# Altium footprint library LPON_IC.PcbLib: 50 footprints (part 1 of 4)
Each footprint in its own frame and in the unit in brackets; x right, y up, seen from the top. Pads: shape width x height; smd on the part's side, far side on the other; paste and mask are expansions set on the pad; w line width, h text height; cw(c..) or ccw(c..) is an arc to the next point about the centre after c.
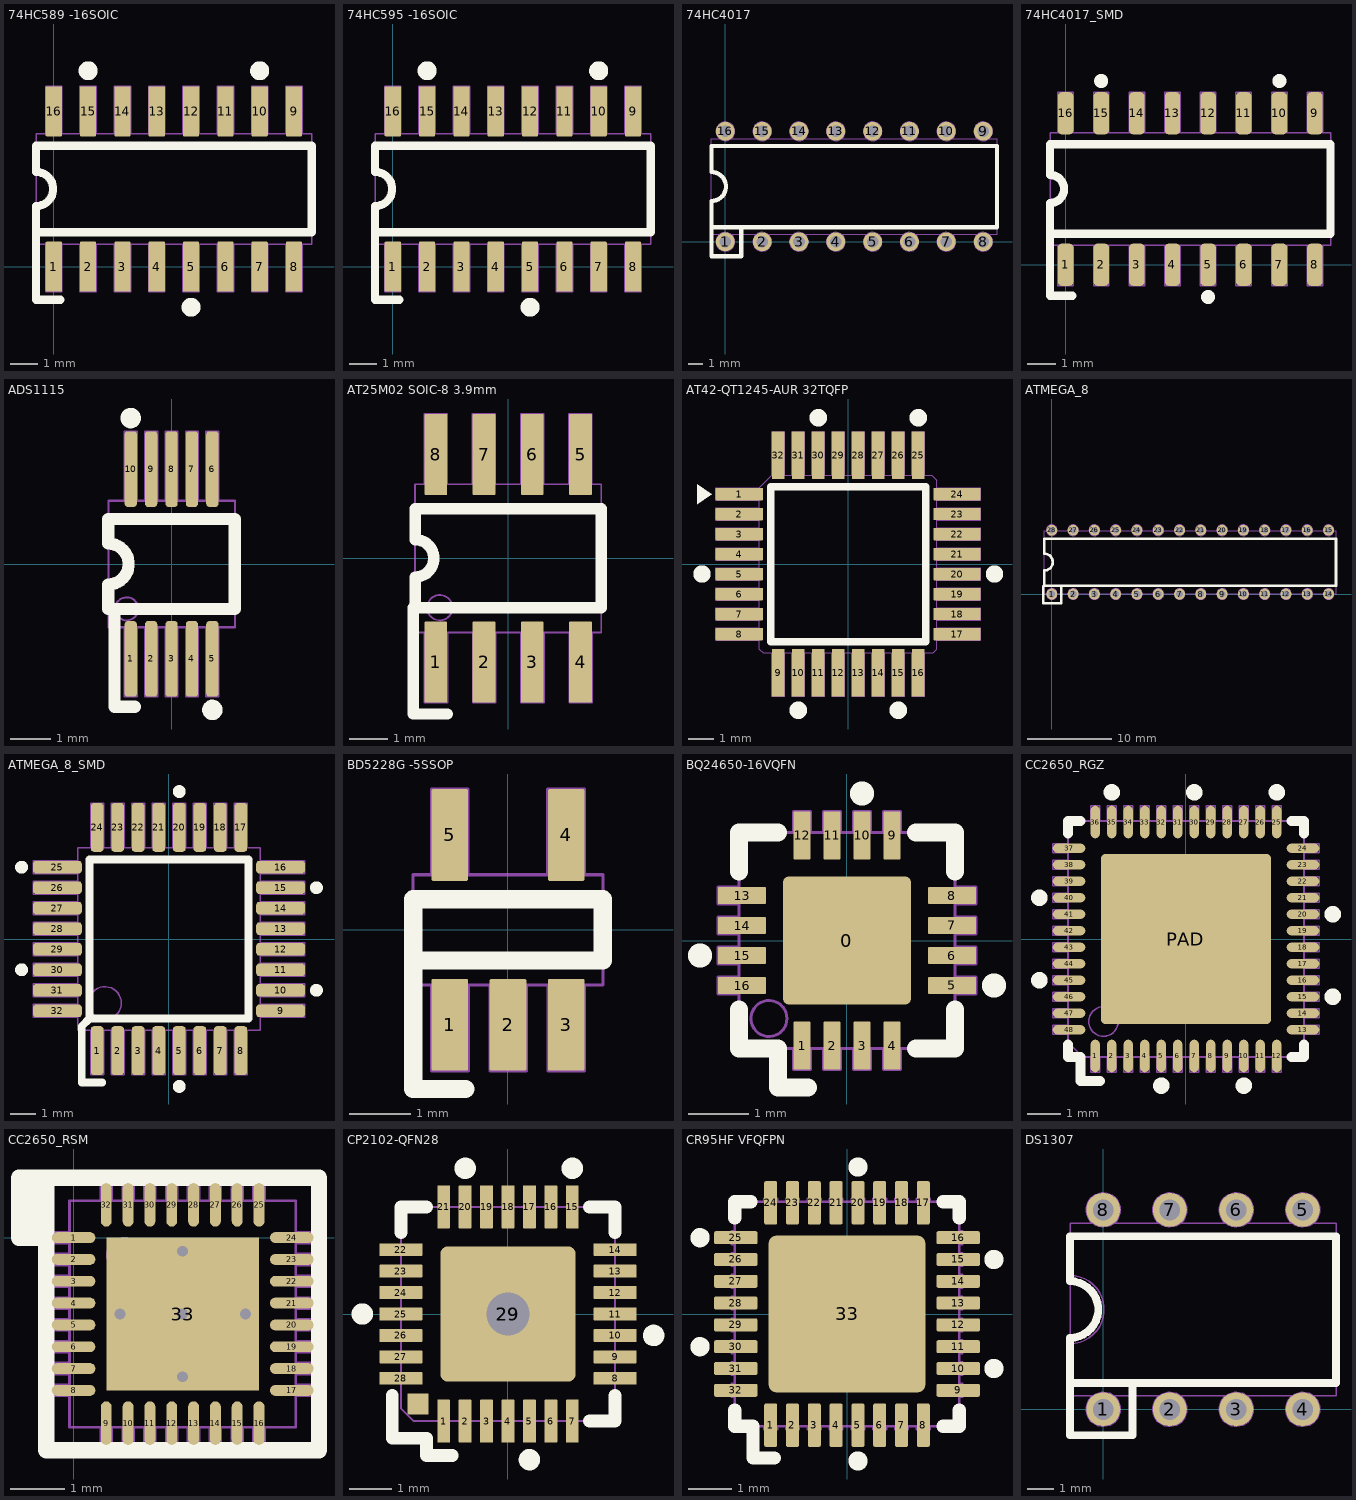
[diagram p0: the footprints below, top view; thin cyan lines are the x and y axes]

## 74HC589 -16SOIC [mm] "IC SHIFT REGISTR 8BIT 3ST 16SOIC"
height 1.75
pads (16):
  rrect10% 0.6x1.85 smd: 1(0,0) 2(1.27,0) 3(2.54,0) 4(3.81,0) 5(5.08,0) 6(6.35,0) 7(7.62,0) 8(8.89,0) 9(8.89,5.75) 10(7.62,5.75) 11(6.35,5.75) 12(5.08,5.75) 13(3.81,5.75) 14(2.54,5.75) 15(1.27,5.75) 16(0,5.75)
Top Overlay:
  circle w0.5: c1.27,7.25 r0.1
  circle w0.5: c7.62,7.25 r0.1
  circle w0.5: c5.08,-1.5 r0.1
  lines w0.3: 0.245,-1.225 -0.655,-1.225 -0.655,1.275 ; -0.655,1.275 -0.655,2.243 ccw(c-0.655,2.875) -0.655,3.507 -0.655,4.475 9.545,4.475 9.545,1.275 -0.655,1.275
Top hinh chieu bang:
  lines w0.05: -0.655,2.243 ccw(c-0.655,2.875) -0.655,3.507 ; 0.969,0.823 0.969,-0.926 1.572,-0.926 1.572,0.823 ; 0.969,4.927 0.969,6.676 1.572,6.676 1.572,4.927 ; 2.239,0.823 2.239,-0.926 2.842,-0.926 2.842,0.823 ; 2.239,4.927 2.239,6.676 2.842,6.676 2.842,4.927 ; 3.509,0.823 3.509,-0.926 4.112,-0.926 4.112,0.823 ; 3.509,4.927 3.509,6.676 4.112,6.676 4.112,4.927 ; 4.779,0.823 4.779,-0.926 5.382,-0.926 5.382,0.823 ; 4.779,4.927 4.779,6.676 5.382,6.676 5.382,4.927 ; 6.049,0.823 6.049,-0.926 6.652,-0.926 6.652,0.823 ; 6.049,4.927 6.049,6.676 6.652,6.676 6.652,4.927 ; 7.319,0.823 7.319,-0.926 7.922,-0.926 7.922,0.823 ; 7.319,4.927 7.319,6.676 7.922,6.676 7.922,4.927 ; 8.589,0.823 8.589,-0.926 9.192,-0.926 9.192,0.823 ; 8.589,4.927 8.589,6.676 9.192,6.676 9.192,4.927 ; -0.301,-0.926 -0.301,0.823 -0.301,-0.926 ; -0.301,-0.926 0.302,-0.926 ; -0.301,-0.926 0.302,-0.926 ; -0.301,6.676 -0.301,4.927 -0.301,6.676 ; -0.301,6.676 0.302,6.676 ; -0.301,6.676 0.302,6.676 ; 0.302,-0.926 0.302,0.823 ; 0.302,-0.926 0.302,0.823 ; 0.302,0.823 0.302,0.823 ; 0.302,4.927 0.302,6.676 ; 0.302,4.927 0.302,4.927 ; 0.302,4.927 0.302,6.676 ; -0.655,0.825 -0.655,4.925 9.545,4.925 9.545,0.825 -0.655,0.825
  text "16" at -0.355,3.975 h0.8
  text "9" at 8.645,3.975 h0.8
  text "8" at 8.645,1.075 h0.8
  text "1" at -0.155,1.075 h0.8
3D body "User Library-so16.step": height 1.6, standoff -0.1, extent -0.65,-0.2 9.55,5.8
3D body "User Library-so16.step": height 1.6, standoff -0.1, extent -0.65,-0.2 9.55,5.8

## 74HC595 -16SOIC [mm] "IC SHIFT REGISTR 8BIT 3ST 16SOIC"
height 1.75
pads (16):
  rrect10% 0.6x1.85 smd: 1(0,0) 2(1.27,0) 3(2.54,0) 4(3.81,0) 5(5.08,0) 6(6.35,0) 7(7.62,0) 8(8.89,0) 9(8.89,5.75) 10(7.62,5.75) 11(6.35,5.75) 12(5.08,5.75) 13(3.81,5.75) 14(2.54,5.75) 15(1.27,5.75) 16(0,5.75)
Top Overlay:
  circle w0.5: c5.08,-1.5 r0.1
  circle w0.5: c7.62,7.25 r0.1
  circle w0.5: c1.27,7.25 r0.1
  lines w0.3: 0.245,-1.225 -0.655,-1.225 -0.655,1.275 ; -0.655,1.275 9.545,1.275 9.545,4.475 -0.655,4.475 -0.655,3.507 cw(c-0.655,2.875) -0.655,2.243 -0.655,1.275
Top hinh chieu bang:
  lines w0.05: -0.655,2.243 ccw(c-0.655,2.875) -0.655,3.507 ; 0.969,0.823 0.969,-0.926 1.572,-0.926 1.572,0.823 ; 0.969,4.927 0.969,6.676 1.572,6.676 1.572,4.927 ; 2.239,0.823 2.239,-0.926 2.842,-0.926 2.842,0.823 ; 2.239,4.927 2.239,6.676 2.842,6.676 2.842,4.927 ; 3.509,0.823 3.509,-0.926 4.112,-0.926 4.112,0.823 ; 3.509,4.927 3.509,6.676 4.112,6.676 4.112,4.927 ; 4.779,0.823 4.779,-0.926 5.382,-0.926 5.382,0.823 ; 4.779,4.927 4.779,6.676 5.382,6.676 5.382,4.927 ; 6.049,0.823 6.049,-0.926 6.652,-0.926 6.652,0.823 ; 6.049,4.927 6.049,6.676 6.652,6.676 6.652,4.927 ; 7.319,0.823 7.319,-0.926 7.922,-0.926 7.922,0.823 ; 7.319,4.927 7.319,6.676 7.922,6.676 7.922,4.927 ; 8.589,0.823 8.589,-0.926 9.192,-0.926 9.192,0.823 ; 8.589,4.927 8.589,6.676 9.192,6.676 9.192,4.927 ; -0.301,-0.926 -0.301,0.823 -0.301,-0.926 ; -0.301,-0.926 0.302,-0.926 ; -0.301,-0.926 0.302,-0.926 ; -0.301,6.676 -0.301,4.927 -0.301,6.676 ; -0.301,6.676 0.302,6.676 ; -0.301,6.676 0.302,6.676 ; 0.302,-0.926 0.302,0.823 ; 0.302,-0.926 0.302,0.823 ; 0.302,0.823 0.302,0.823 ; 0.302,4.927 0.302,6.676 ; 0.302,4.927 0.302,4.927 ; 0.302,4.927 0.302,6.676 ; -0.655,0.825 9.545,0.825 9.545,4.925 -0.655,4.925 -0.655,0.825
  text "1" at -0.155,1.075 h0.8
  text "8" at 8.645,1.075 h0.8
  text "9" at 8.645,3.975 h0.8
  text "16" at -0.355,3.975 h0.8
3D body "User Library-so16.step": height 1.6, standoff -0.1, extent -0.65,-0.2 9.55,5.8

## 74HC4017 [mm] "DIP 16, 16 PIN, W 7.62, Pin to pin 2.54MM"
height 5.08
pads (16):
  round 1.3 hole 0.8: 1(0,0) 2(2.54,0) 3(5.08,0) 4(7.62,0) 5(10.16,0) 6(12.7,0) 7(15.24,0) 8(17.78,0) 9(17.78,7.62) 10(15.24,7.62) 11(12.7,7.62) 12(10.16,7.62) 13(7.62,7.62) 14(5.08,7.62) 15(2.54,7.62) 16(0,7.62)
Top Overlay:
  lines w0.3: 1.09,1.01 1.09,-0.99 -0.955,-0.99 -0.955,1.01 ; -0.955,1.01 18.735,1.01 18.735,6.61 -0.955,6.61 -0.955,4.81 cw(c-0.955,3.81) -0.955,2.81 -0.955,1.01
ASSY-C:
  circle w0.05: c0,7.62 r0.65
  circle w0.05: c2.54,7.62 r0.65
  circle w0.05: c5.08,7.62 r0.65
  circle w0.05: c7.62,7.62 r0.65
  circle w0.05: c7.62,0 r0.65
  circle w0.05: c5.08,0 r0.65
  circle w0.05: c2.54,0 r0.65
  circle w0.05: c0,0 r0.65
  circle w0.05: c7.62,0 r0.65
  circle w0.05: c7.62,7.62 r0.65
  circle w0.05: c10.16,0 r0.65
  circle w0.05: c10.16,7.62 r0.65
  circle w0.05: c12.7,0 r0.65
  circle w0.05: c12.7,7.62 r0.65
  circle w0.05: c15.24,0 r0.65
  circle w0.05: c15.24,7.62 r0.65
  circle w0.05: c17.78,0 r0.65
  circle w0.05: c17.78,7.62 r0.65
  lines w0.05: -0.955,2.81 ccw(c-0.955,3.81) -0.955,4.81 ; -0.955,0.51 18.735,0.51 18.735,7.11 -0.955,7.11 -0.955,0.51
  text "1" at -0.25,0.91 h1
  text "8" at 17.3,0.87 h1
  text "9" at 17.46,5.69 h1
  text "16" at -0.35,5.81 h1
3D body "User Library-DIP16-300-metric.step": height 4.5, standoff -3.5, extent -1.41,-0.07 19.19,7.69

## 74HC4017_SMD [mm] "CHIP DAN 16 CHAN LOAI D"
height 1.75
pads (16):
  rrect50% 0.55x1.5 smd mask+0.1: 1(0,0) 2(1.27,0) 3(2.54,0) 4(3.81,0) 5(5.08,0) 6(6.35,0) 7(7.62,0) 8(8.89,0) 9(8.89,5.4) 10(7.62,5.4) 11(6.35,5.4) 12(5.08,5.4) 13(3.81,5.4) 14(2.54,5.4) 15(1.27,5.4) 16(0,5.4)
Top Overlay:
  circle w0.3: c1.27,6.55 r0.1
  circle w0.3: c7.62,6.55 r0.1
  circle w0.3: c5.08,-1.15 r0.1
  lines w0.3: 0.245,-1.1 -0.555,-1.1 -0.555,1.1 ; -0.555,1.1 -0.555,2.2 ccw(c-0.555,2.7) -0.555,3.2 -0.555,4.3 9.445,4.3 9.445,1.1 -0.555,1.1
ASSY-C:
  lines w0.05: -0.555,2.2 ccw(c-0.555,2.7) -0.555,3.2 ; -0.555,0.7 -0.555,4.7 9.445,4.7 9.445,0.7 -0.555,0.7 ; -0.275,-0.75 0.275,-0.75 0.275,0.7 -0.275,0.7 -0.275,-0.75 ; -0.275,4.7 -0.275,6.15 0.275,6.15 0.275,4.7 -0.275,4.7 ; 0.995,-0.75 0.995,0.7 1.545,0.7 1.545,-0.75 0.995,-0.75 ; 0.995,4.7 0.995,6.15 1.545,6.15 1.545,4.7 0.995,4.7 ; 2.265,-0.75 2.265,0.7 2.815,0.7 2.815,-0.75 2.265,-0.75 ; 2.265,4.7 2.265,6.15 2.815,6.15 2.815,4.7 2.265,4.7 ; 3.535,-0.75 3.535,0.7 4.085,0.7 4.085,-0.75 3.535,-0.75 ; 3.535,4.7 3.535,6.15 4.085,6.15 4.085,4.7 3.535,4.7 ; 4.805,-0.75 4.805,0.7 5.355,0.7 5.355,-0.75 4.805,-0.75 ; 4.805,4.7 4.805,6.15 5.355,6.15 5.355,4.7 4.805,4.7 ; 6.075,-0.75 6.075,0.7 6.625,0.7 6.625,-0.75 6.075,-0.75 ; 6.075,4.7 6.075,6.15 6.625,6.15 6.625,4.7 6.075,4.7 ; 7.345,-0.75 7.345,0.7 7.895,0.7 7.895,-0.75 7.345,-0.75 ; 7.345,4.7 7.345,6.15 7.895,6.15 7.895,4.7 7.345,4.7 ; 8.615,-0.75 8.615,0.7 9.165,0.7 9.165,-0.75 8.615,-0.75 ; 8.615,4.7 8.615,6.15 9.165,6.15 9.165,4.7 8.615,4.7
  text "16" at -0.455,3.4 h1
  text "9" at 8.545,3.5 h1
  text "8" at 8.545,0.9 h1
  text "1" at -0.155,0.9 h1
3D body "User Library-SOIC-16-2.step": height 1.75, standoff 0, extent -0.555,-0.3 9.445,5.7

## ADS1115 [mm] "MSOP-10, 16-Bit  Analog-to-Digital"
height 1
pads (10):
  rrect50% 0.3x1.85 smd mask+0.05: 1(-1,-2.325) 2(-0.5,-2.325) 3(0,-2.325) 4(0.5,-2.325) 5(1,-2.325) 6(1,2.325) 7(0.5,2.325) 8(0,2.325) 9(-0.5,2.325) 10(-1,2.325)
Top Overlay:
  circle w0.3: c1,-3.575 r0.1
  circle w0.3: c-1,3.575 r0.1
  lines w0.3: -1.4,-1.1 -1.4,-3.5 -0.9,-3.5 ; -1.55,-1.1 -1.55,-0.5 ccw(c-1.55,0) -1.55,0.5 -1.55,1.1 1.55,1.1 1.55,-1.1 -1.55,-1.1
ASSY-C:
  circle w0.05: c-1.1,-1.1 r0.283
  lines w0.05: -1.55,-0.4 ccw(c-1.55,0) -1.55,0.4 ; -1.55,-1.55 -1.55,1.55 1.55,1.55 1.55,-1.55 -1.55,-1.55 ; -1.15,-3.25 -0.85,-3.25 -0.85,-1.55 -1.15,-1.55 -1.15,-3.25 ; -1.15,1.55 -1.15,3.25 -0.85,3.25 -0.85,1.55 -1.15,1.55 ; -0.65,-3.25 -0.65,-1.55 -0.35,-1.55 -0.35,-3.25 -0.65,-3.25 ; -0.65,1.55 -0.65,3.25 -0.35,3.25 -0.35,1.55 -0.65,1.55 ; -0.15,-3.25 -0.15,-1.55 0.15,-1.55 0.15,-3.25 -0.15,-3.25 ; -0.15,1.55 -0.15,3.25 0.15,3.25 0.15,1.55 -0.15,1.55 ; 0.35,-3.25 0.35,-1.55 0.65,-1.55 0.65,-3.25 0.35,-3.25 ; 0.35,1.55 0.35,3.25 0.65,3.25 0.65,1.55 0.35,1.55 ; 0.85,-3.25 0.85,-1.55 1.15,-1.55 1.15,-3.25 0.85,-3.25 ; 0.85,1.55 0.85,3.25 1.15,3.25 1.15,1.55 0.85,1.55
  text "10" at -1.4,0.6 h0.8
  text "6" at 0.8,0.6 h0.8
  text "5" at 0.8,-1.4 h0.8
3D body "User Library-msop-10.step": height 1.15, standoff 0, extent -1.5,-2.45 1.5,2.45

## AT25M02 SOIC-8 3.9mm [mm] "8-Pin SOIC 3.9mm Width"
height 2.16
pads (8):
  rrect10% 0.6x2.135 smd mask+0.1: 1(-1.905,-2.732) 2(-0.635,-2.732) 3(0.635,-2.732) 4(1.905,-2.732) 5(1.905,2.733) 6(0.635,2.733) 7(-0.635,2.733) 8(-1.905,2.733)
Top Overlay:
  lines w0.3: -1.6,-4.1 -2.5,-4.1 -2.5,-1.3 -2.45,-1.3 ; -2.45,-1.3 2.45,-1.3 2.45,1.3 -2.45,1.3 -2.45,0.493 cw(c-2.45,0) -2.45,-0.492 -2.45,-1.3
Top hinh chieu bang:
  circle w0.05: c-1.8,-1.3 r0.334
  lines w0.05: -2.45,-0.532 ccw(c-2.45,0) -2.45,0.532 ; -2.21,1.95 -2.21,3.8 -1.61,3.8 -1.61,1.95 ; -2.2,-1.95 -2.2,-3.8 -1.6,-3.8 -1.6,-1.95 ; -0.94,1.95 -0.94,3.8 -0.34,3.8 -0.34,1.95 ; -0.93,-1.95 -0.93,-3.8 -0.33,-3.8 -0.33,-1.95 ; 0.33,1.95 0.33,3.8 0.93,3.8 0.93,1.95 ; 0.34,-1.95 0.34,-3.8 0.94,-3.8 0.94,-1.95 ; 1.6,1.95 1.6,3.8 2.2,3.8 2.2,1.95 ; 1.61,-1.95 1.61,-3.8 2.21,-3.8 2.21,-1.95 ; -2.45,-1.95 2.45,-1.95 2.45,1.95 -2.45,1.95 -2.45,-1.95
  text "4" at 1.6,-1.7 h1
  text "5" at 1.62,0.712 h1
  text "8" at -2.24,0.712 h1
3D body "User Library-SOIC-8-1 (2).step": height 1.75, standoff 0, extent -2.45,-3.1 2.45,2.9
3D body "User Library-SOIC-8-1.step": height 1.75, standoff 0, extent -2.45,-3 2.45,3

## AT42-QT1245-AUR 32TQFP [mm] "Capacitive Touch Buttons 32-TQFP (7x7)"
height 1.2
pads (32):
  rrect10% 1.9x0.5 smd mask+0.1: 1(-4.35,2.8) 2(-4.35,2) 3(-4.35,1.2) 4(-4.35,0.4) 5(-4.35,-0.4) 6(-4.35,-1.2) 7(-4.35,-2) 8(-4.35,-2.8) 17(4.35,-2.8) 18(4.35,-2) 19(4.35,-1.2) 20(4.35,-0.4) 21(4.35,0.4) 22(4.35,1.2) 23(4.35,2) 24(4.35,2.8)
  rrect10% 0.5x1.9 smd mask+0.1: 9(-2.8,-4.35) 10(-2,-4.35) 11(-1.2,-4.35) 12(-0.4,-4.35) 13(0.4,-4.35) 14(1.2,-4.35) 15(2,-4.35) 16(2.8,-4.35) 25(2.8,4.35) 26(2,4.35) 27(1.2,4.35) 28(0.4,4.35) 29(-0.4,4.35) 30(-1.2,4.35) 31(-2,4.35) 32(-2.8,4.35)
Top Overlay:
  circle w0.5: c-5.85,-0.4 r0.1
  circle w0.5: c-2,-5.85 r0.1
  circle w0.5: c2,-5.85 r0.1
  circle w0.5: c5.85,-0.4 r0.1
  circle w0.5: c2.8,5.85 r0.1
  circle w0.5: c-1.2,5.85 r0.1
  region: -5.45,2.8 -6.05,2.4 -6.05,3.2
  lines w0.3: -3.1,-3.1 -3.1,3.1 3.1,3.1 3.1,-3.1 -3.1,-3.1
Top hinh chieu bang:
  lines w0.05: -3.553,-3.055 -5.292,-3.055 -5.292,-2.547 -3.553,-2.547 ; -3.553,-2.255 -5.292,-2.255 -5.292,-1.747 -3.553,-1.747 ; -3.553,-1.455 -5.292,-1.455 -5.292,-0.947 -3.553,-0.947 ; -3.553,-0.655 -5.292,-0.655 -5.292,-0.147 -3.553,-0.147 ; -3.553,0.145 -5.292,0.145 -5.292,0.653 -3.553,0.653 ; -3.553,0.945 -5.292,0.945 -5.292,1.453 -3.553,1.453 ; -3.553,1.745 -5.292,1.745 -5.292,2.253 -3.553,2.253 ; -3.055,3.553 -3.055,5.292 -2.547,5.292 -2.547,3.553 ; -2.255,3.553 -2.255,5.292 -1.747,5.292 -1.747,3.553 ; -2.253,-3.553 -2.253,-5.292 -1.745,-5.292 -1.745,-3.553 ; -1.455,3.553 -1.455,5.292 -0.947,5.292 -0.947,3.553 ; -1.453,-3.553 -1.453,-5.292 -0.945,-5.292 -0.945,-3.553 ; -0.655,3.553 -0.655,5.292 -0.147,5.292 -0.147,3.553 ; -0.653,-3.553 -0.653,-5.292 -0.145,-5.292 -0.145,-3.553 ; 0.145,3.553 0.145,5.292 0.653,5.292 0.653,3.553 ; 0.147,-3.553 0.147,-5.292 0.655,-5.292 0.655,-3.553 ; 0.945,3.553 0.945,5.292 1.453,5.292 1.453,3.553 ; 0.947,-3.553 0.947,-5.292 1.455,-5.292 1.455,-3.553 ; 1.745,3.553 1.745,5.292 2.253,5.292 2.253,3.553 ; 1.747,-3.553 1.747,-5.292 2.255,-5.292 2.255,-3.553 ; 2.547,-3.553 2.547,-5.292 3.055,-5.292 3.055,-3.553 ; 3.553,-2.253 5.292,-2.253 5.292,-1.745 3.553,-1.745 ; 3.553,-1.453 5.292,-1.453 5.292,-0.945 3.553,-0.945 ; 3.553,-0.653 5.292,-0.653 5.292,-0.145 3.553,-0.145 ; 3.553,0.147 5.292,0.147 5.292,0.655 3.553,0.655 ; 3.553,0.947 5.292,0.947 5.292,1.455 3.553,1.455 ; 3.553,1.747 5.292,1.747 5.292,2.255 3.553,2.255 ; 3.553,2.547 5.292,2.547 5.292,3.055 3.553,3.055 ; -5.292,2.545 -5.292,3.053 ; -5.292,2.545 -3.553,2.545 -5.292,2.545 ; -5.292,2.545 -5.292,3.053 ; -5.292,3.053 -3.553,3.053 -5.292,3.053 ; -3.053,-5.292 -3.053,-3.553 -3.053,-5.292 ; -3.053,-5.292 -2.545,-5.292 ; -3.053,-5.292 -2.545,-5.292 ; -2.545,-5.292 -2.545,-3.553 -2.545,-5.292 ; 2.545,5.292 3.053,5.292 ; 2.545,5.292 2.545,3.553 2.545,5.292 ; 2.545,5.292 3.053,5.292 ; 3.053,5.292 3.053,3.553 3.053,5.292 ; 5.292,-3.053 3.553,-3.053 5.292,-3.053 ; 5.292,-3.053 5.292,-2.545 ; 5.292,-3.053 5.292,-2.545 ; 5.292,-2.545 3.553,-2.545 5.292,-2.545 ; -3.55,-3.4 -3.4,-3.55 3.4,-3.55 3.55,-3.4 3.55,3.35 3.35,3.55 -3.05,3.55 -3.55,3.05 -3.55,-3.4
  text "1" at -2.3,1.9 h1
  text "8" at -2.3,-2 h1
  text "9" at -2.4,-3.3 h1
  text "16" at 1.1,-3.3 h1
  text "17" at 3.4,-2.1 h1
  text "24" at 3.4,0.8 h1
  text "25" at 0.9,2.4 h1
  text "32" at -2.2,2.4 h1
3D body "User Library-TQFP32-1.step": height 1.1, standoff 0, extent -4.508,-4.509 4.509,4.509

## ATMEGA_8 [mm] "DIP 28, w7.62, PIN TO PIN 2.54"
height 4.6
pads (28):
  round 1.3 hole 0.8: 1(0,0) 2(2.54,0) 3(5.08,0) 4(7.62,0) 5(10.16,0) 6(12.7,0) 7(15.24,0) 8(17.78,0) 9(20.32,0) 10(22.86,0) 11(25.4,0) 12(27.94,0) 13(30.48,0) 14(33.02,0) 15(33.02,7.62) 16(30.48,7.62) 17(27.94,7.62) 18(25.4,7.62) 19(22.86,7.62) 20(20.32,7.62) 21(17.78,7.62) 22(15.24,7.62) 23(12.7,7.62) 24(10.16,7.62) 25(7.62,7.62) 26(5.08,7.62) 27(2.54,7.62) 28(0,7.62)
Top Overlay:
  lines w0.3: 1.1,1 1.1,-1.1 -1,-1.1 -1,0.9 -0.9,1 -0.889,1 ; -0.889,1 33.909,1 33.909,6.6 -0.889,6.6 -0.889,4.81 cw(c-0.889,3.81) -0.889,2.81 -0.889,1
ASSY-C:
  circle w0.05: c33.02,7.62 r0.65
  circle w0.05: c30.48,7.62 r0.65
  circle w0.05: c27.94,7.62 r0.65
  circle w0.05: c25.4,7.62 r0.65
  circle w0.05: c22.86,7.62 r0.65
  circle w0.05: c20.32,7.62 r0.65
  circle w0.05: c17.78,7.62 r0.65
  circle w0.05: c15.24,7.62 r0.65
  circle w0.05: c12.7,7.62 r0.65
  circle w0.05: c10.16,7.62 r0.65
  circle w0.05: c7.62,7.62 r0.65
  circle w0.05: c5.08,7.62 r0.65
  circle w0.05: c2.54,7.62 r0.65
  circle w0.05: c0,7.62 r0.65
  circle w0.05: c0,0 r0.65
  circle w0.05: c33.02,0 r0.65
  circle w0.05: c30.48,0 r0.65
  circle w0.05: c27.94,0 r0.65
  circle w0.05: c25.4,0 r0.65
  circle w0.05: c22.86,0 r0.65
  circle w0.05: c20.32,0 r0.65
  circle w0.05: c17.78,0 r0.65
  circle w0.05: c15.24,0 r0.65
  circle w0.05: c12.7,0 r0.65
  circle w0.05: c10.16,0 r0.65
  circle w0.05: c7.62,0 r0.65
  circle w0.05: c5.08,0 r0.65
  circle w0.05: c2.54,0 r0.65
  lines w0.05: -0.889,2.81 ccw(c-0.889,3.81) -0.889,4.81 ; -0.889,0.064 33.909,0.064 33.909,7.556 -0.889,7.556 -0.889,0.064
  text "28" at -0.49,5.51 h1.2
  text "15" at 31.91,5.61 h1.2
  text "14" at 32.11,0.81 h1.2
  text "1" at -0.09,0.81 h1.2
3D body "User Library-DIP28-300.step": height 5.08, standoff -2.49, extent -1.4,-0.035 34.6,7.835

## ATMEGA_8_SMD [mm] "32A,32-lead, 7 x 7mm body size, 1.0mm body"
height 1.2
pads (32):
  rrect50% 0.5x1.9 smd mask+0.1: 1(-2.8,-4.35) 2(-2,-4.35) 3(-1.2,-4.35) 4(-0.4,-4.35) 5(0.4,-4.35) 6(1.2,-4.35) 7(2,-4.35) 8(2.8,-4.35) 17(2.8,4.35) 18(2,4.35) 19(1.2,4.35) 20(0.4,4.35) 21(-0.4,4.35) 22(-1.2,4.35) 23(-2,4.35) 24(-2.8,4.35)
  rrect50% 1.9x0.5 smd mask+0.1: 9(4.35,-2.8) 10(4.35,-2) 11(4.35,-1.2) 12(4.35,-0.4) 13(4.35,0.4) 14(4.35,1.2) 15(4.35,2) 16(4.35,2.8) 25(-4.35,2.8) 26(-4.35,2) 27(-4.35,1.2) 28(-4.35,0.4) 29(-4.35,-0.4) 30(-4.35,-1.2) 31(-4.35,-2) 32(-4.35,-2.8)
Top Overlay:
  circle w0.3: c0.4,-5.75 r0.1
  circle w0.3: c5.75,-2 r0.1
  circle w0.3: c5.75,2 r0.1
  circle w0.3: c0.4,5.75 r0.1
  circle w0.3: c-5.75,2.8 r0.1
  circle w0.3: c-5.75,-1.2 r0.1
  lines w0.3: -2.6,-5.6 -3.4,-5.6 -3.4,-3.4 -3.1,-3.1 ; -3.1,-3.1 3.1,-3.1 3.1,3.1 -3.1,3.1 -3.1,-3.1
ASSY-C:
  circle w0.05: c-2.5,-2.5 r0.64
  lines w0.05: -5.3,-3.05 -3.55,-3.05 -3.55,-2.55 -5.3,-2.55 -5.3,-3.05 ; -5.3,-2.25 -3.55,-2.25 -3.55,-1.75 -5.3,-1.75 -5.3,-2.25 ; -5.3,-1.45 -3.55,-1.45 -3.55,-0.95 -5.3,-0.95 -5.3,-1.45 ; -5.3,-0.65 -3.55,-0.65 -3.55,-0.15 -5.3,-0.15 -5.3,-0.65 ; -5.3,0.15 -3.55,0.15 -3.55,0.65 -5.3,0.65 -5.3,0.15 ; -5.3,0.95 -3.55,0.95 -3.55,1.45 -5.3,1.45 -5.3,0.95 ; -5.3,1.75 -3.55,1.75 -3.55,2.25 -5.3,2.25 -5.3,1.75 ; -5.3,2.55 -3.55,2.55 -3.55,3.05 -5.3,3.05 -5.3,2.55 ; -3.55,-3.55 -3.55,3.55 3.55,3.55 3.55,-3.55 -3.55,-3.55 ; -3.05,-5.3 -2.55,-5.3 -2.55,-3.55 -3.05,-3.55 -3.05,-5.3 ; -3.05,3.55 -2.55,3.55 -2.55,5.3 -3.05,5.3 -3.05,3.55 ; -2.25,-5.3 -1.75,-5.3 -1.75,-3.55 -2.25,-3.55 -2.25,-5.3 ; -2.25,3.55 -1.75,3.55 -1.75,5.3 -2.25,5.3 -2.25,3.55 ; -1.45,-5.3 -0.95,-5.3 -0.95,-3.55 -1.45,-3.55 -1.45,-5.3 ; -1.45,3.55 -0.95,3.55 -0.95,5.3 -1.45,5.3 -1.45,3.55 ; -0.65,-5.3 -0.15,-5.3 -0.15,-3.55 -0.65,-3.55 -0.65,-5.3 ; -0.65,3.55 -0.15,3.55 -0.15,5.3 -0.65,5.3 -0.65,3.55 ; 0.15,-5.3 0.65,-5.3 0.65,-3.55 0.15,-3.55 0.15,-5.3 ; 0.15,3.55 0.65,3.55 0.65,5.3 0.15,5.3 0.15,3.55 ; 0.95,-5.3 1.45,-5.3 1.45,-3.55 0.95,-3.55 0.95,-5.3 ; 0.95,3.55 1.45,3.55 1.45,5.3 0.95,5.3 0.95,3.55 ; 1.75,-5.3 2.25,-5.3 2.25,-3.55 1.75,-3.55 1.75,-5.3 ; 1.75,3.55 2.25,3.55 2.25,5.3 1.75,5.3 1.75,3.55 ; 2.55,-5.3 3.05,-5.3 3.05,-3.55 2.55,-3.55 2.55,-5.3 ; 2.55,3.55 3.05,3.55 3.05,5.3 2.55,5.3 2.55,3.55 ; 3.55,-3.05 5.3,-3.05 5.3,-2.55 3.55,-2.55 3.55,-3.05 ; 3.55,-2.25 5.3,-2.25 5.3,-1.75 3.55,-1.75 3.55,-2.25 ; 3.55,-1.45 5.3,-1.45 5.3,-0.95 3.55,-0.95 3.55,-1.45 ; 3.55,-0.65 5.3,-0.65 5.3,-0.15 3.55,-0.15 3.55,-0.65 ; 3.55,0.15 5.3,0.15 5.3,0.65 3.55,0.65 3.55,0.15 ; 3.55,0.95 5.3,0.95 5.3,1.45 3.55,1.45 3.55,0.95 ; 3.55,1.75 5.3,1.75 5.3,2.25 3.55,2.25 3.55,1.75 ; 3.55,2.55 5.3,2.55 5.3,3.05 3.55,3.05 3.55,2.55
  text "8" at 2.1,-3.3 h0.8
  text "9" at 3.3,-2.5 h0.8
  text "16" at 3.3,1.6 h0.8
  text "17" at 1.5,2.5 h0.8
  text "24" at -2.5,2.5 h0.8
  text "25" at -2.6,1.7 h0.8
  text "32" at -2.5,-1.8 h0.8
3D body "User Library-SW3dPS-atmega8 (tqfp32)_V2008.step": height 1.1, standoff -0.01, extent -4.7,-4.81 4.9,4.79

## BD5228G -5SSOP [mm] "IC DETECTOR VOLT 2.8V ODRN 5SSOP"
height 1.25
pads (5):
  rrect10% 0.6x1.5 smd: 1(-0.95,-1.55) 2(0,-1.55) 3(0.95,-1.55) 4(0.95,1.55) 5(-0.95,1.55)
Top Overlay:
  lines w0.3: -0.7,-2.6 -1.55,-2.6 -1.55,-0.5 ; -1.55,-0.5 -1.55,0.5 1.55,0.5 1.55,-0.5 -1.55,-0.5
Top hinh chieu bang:
  lines w0.05: -1.251,0.9 -1.251,2.301 -0.653,2.301 -0.653,0.909 ; -1.247,-0.909 -1.247,-2.301 -0.649,-2.301 -0.649,-0.9 ; -0.297,-0.909 -0.297,-2.301 0.301,-2.301 0.301,-0.9 ; 0.649,0.9 0.649,2.301 1.247,2.301 1.247,0.909 ; 0.653,-0.909 0.653,-2.301 1.251,-2.301 1.251,-0.9 ; -1.55,-0.9 1.55,-0.9 1.55,0.9 -1.55,0.9 -1.55,-0.9
  text "1" at -1.055,-0.752 h0.5
  text "3" at 0.846,-0.747 h0.5
  text "4" at 0.817,0.324 h0.5
  text "5" at -1.1,0.3 h0.5
3D body "User Library-TC7S04F - SS05-P-0_95.step": height 1.1, standoff 0, extent -1.5,-1.4 1.4,1.4
3D body "70521920.stp": height 1.02, standoff -0.1, extent -1.45,-1.4 1.45,1.4

## BQ24650-16VQFN [mm] "Chargeing the battery"
height 1
pads (17):
  rrect10% 2.14x2.14 smd mask+0.07: 0(0,0)
  rrect10% 0.28x0.8 smd mask+0.07: 1(-0.75,-1.75) 2(-0.25,-1.75) 3(0.25,-1.75) 4(0.75,-1.75) 9(0.75,1.75) 10(0.25,1.75) 11(-0.25,1.75) 12(-0.75,1.75)
  rrect10% 0.8x0.28 smd mask+0.07: 5(1.75,-0.75) 6(1.75,-0.25) 7(1.75,0.25) 8(1.75,0.75) 13(-1.75,0.75) 14(-1.75,0.25) 15(-1.75,-0.25) 16(-1.75,-0.75)
Top Overlay:
  circle w0.3: c2.45,-0.75 r0.05
  circle w0.3: c0.25,2.45 r0.05
  circle w0.3: c-2.45,-0.25 r0.05
  lines w0.3: -1.8,-1.15 -1.8,-1.8 -1.15,-1.8 -1.15,-2.45 -0.65,-2.45 ; -1.8,1.15 -1.8,1.8 -1.15,1.8 ; 1.15,-1.8 1.8,-1.8 1.8,-1.15 ; 1.15,1.8 1.8,1.8 1.8,1.15
ASSY-C:
  circle w0.05: c-1.3,-1.3 r0.3
  lines w0.05: -2.15,-0.89 -1.8,-0.89 -1.8,-0.61 -2.15,-0.61 -2.15,-0.89 ; -2.15,-0.39 -1.8,-0.39 -1.8,-0.11 -2.15,-0.11 -2.15,-0.39 ; -2.15,0.11 -1.8,0.11 -1.8,0.39 -2.15,0.39 -2.15,0.11 ; -2.15,0.61 -2.15,0.89 -1.8,0.89 -1.8,0.61 -2.15,0.61 ; -1.8,-1.8 -1.8,1.8 1.8,1.8 1.8,-1.8 -1.8,-1.8 ; -0.89,-2.15 -0.61,-2.15 -0.61,-1.8 -0.89,-1.8 -0.89,-2.15 ; -0.89,1.8 -0.61,1.8 -0.61,2.15 -0.89,2.15 -0.89,1.8 ; -0.39,-2.15 -0.39,-1.8 -0.11,-1.8 -0.11,-2.15 -0.39,-2.15 ; -0.39,1.8 -0.11,1.8 -0.11,2.15 -0.39,2.15 -0.39,1.8 ; 0.11,-2.15 0.11,-1.8 0.39,-1.8 0.39,-2.15 0.11,-2.15 ; 0.11,1.8 0.39,1.8 0.39,2.15 0.11,2.15 0.11,1.8 ; 0.61,-2.15 0.61,-1.8 0.89,-1.8 0.89,-2.15 0.61,-2.15 ; 0.61,1.8 0.61,2.15 0.89,2.15 0.89,1.8 0.61,1.8 ; 1.8,-0.89 2.15,-0.89 2.15,-0.61 1.8,-0.61 1.8,-0.89 ; 1.8,-0.39 1.8,-0.11 2.15,-0.11 2.15,-0.39 1.8,-0.39 ; 1.8,0.11 1.8,0.39 2.15,0.39 2.15,0.11 1.8,0.11 ; 1.8,0.61 1.8,0.89 2.15,0.89 2.15,0.61 1.8,0.61
  text "4" at 0.85,-1.55 h0.4
  text "5" at 1.55,-0.95 h0.4
  text "8" at 1.55,0.85 h0.4
  text "9" at 0.95,1.25 h0.4
  text "12" at -1.15,1.25 h0.4
  text "13" at -1.15,0.45 h0.4
  text "16" at -1.15,-0.95 h0.4

## CC2650_RGZ [mm] "TI MCU + BLUETOOTH 48 PIN 7.15x7.15x1mm"
height 1
pads (49):
  oval 0.28x0.99 smd mask+0.05: 1(-2.75,-3.545) 2(-2.25,-3.545) 3(-1.75,-3.545) 4(-1.25,-3.545) 5(-0.75,-3.545) 6(-0.25,-3.545) 7(0.25,-3.545) 8(0.75,-3.545) 9(1.25,-3.545) 10(1.75,-3.545) 11(2.25,-3.545) 12(2.75,-3.545) 25(2.75,3.545) 26(2.25,3.545) 27(1.75,3.545) 28(1.25,3.545) 29(0.75,3.545) 30(0.25,3.545) 31(-0.25,3.545) 32(-0.75,3.545) 33(-1.25,3.545) 34(-1.75,3.545) 35(-2.25,3.545) 36(-2.75,3.545)
  oval 0.99x0.28 smd mask+0.05: 13(3.545,-2.75) 14(3.545,-2.25) 15(3.545,-1.75) 16(3.545,-1.25) 17(3.545,-0.75) 18(3.545,-0.25) 19(3.545,0.25) 20(3.545,0.75) 21(3.545,1.25) 22(3.545,1.75) 23(3.545,2.25) 24(3.545,2.75) 37(-3.545,2.75) 38(-3.545,2.25) 39(-3.545,1.75) 40(-3.545,1.25) 41(-3.545,0.75) 42(-3.545,0.25) 43(-3.545,-0.25) 44(-3.545,-0.75) 45(-3.545,-1.25) 46(-3.545,-1.75) 47(-3.545,-2.25) 48(-3.545,-2.75)
  rrect5% 5.15x5.15 smd mask+0.1: PAD(0,0)
Top Overlay:
  circle w0.3: c-0.75,-4.445 r0.1
  circle w0.3: c1.75,-4.445 r0.1
  circle w0.3: c4.445,-1.75 r0.1
  circle w0.3: c4.445,0.75 r0.1
  circle w0.3: c2.75,4.445 r0.1
  circle w0.3: c0.25,4.445 r0.1
  circle w0.3: c-2.25,4.445 r0.1
  circle w0.3: c-4.445,1.25 r0.1
  circle w0.3: c-4.445,-1.25 r0.1
  lines w0.3: -3.575,-3.2 -3.575,-3.575 -3.2,-3.575 -3.2,-4.3 -2.6,-4.3 ; -3.575,3.2 -3.575,3.575 -3.2,3.575 ; 3.2,-3.575 3.575,-3.575 3.575,-3.2 ; 3.2,3.575 3.575,3.575 3.575,3.2
ASSY-C:
  drawing of 198 lines, arcs and shapes, not listed
  text "13" at 3.4,-2.9 h0.5
  text "12" at 2.1,-3.4 h0.5
  text "48" at -3,-2.9 h0.5
  text "37" at -3,2.1 h0.5
  text "36" at -2.9,3 h0.5
  text "25" at 2.1,3 h0.5
  text "24" at 3.4,2.1 h0.5

## CC2650_RSM [mm] "QFN, 32-Leads, Body 4x4mm, Pitch 0.4mm, Thermal Pad 2.8x2.8mm, TI Recommended"
height 1
pads (33):
  oval 0.8x0.2 smd mask+0.025: 1(0,0) 2(0,-0.4) 3(0,-0.8) 4(0,-1.2) 5(0,-1.6) 6(0,-2) 7(0,-2.4) 8(0,-2.8) 17(4,-2.8) 18(4,-2.4) 19(4,-2) 20(4,-1.6) 21(4,-1.2) 22(4,-0.8) 23(4,-0.4) 24(4,0)
  oval 0.2x0.8 smd mask+0.025: 9(0.6,-3.4) 10(1,-3.4) 11(1.4,-3.4) 12(1.8,-3.4) 13(2.2,-3.4) 14(2.6,-3.4) 15(3,-3.4) 16(3.4,-3.4) 25(3.4,0.6) 26(3,0.6) 27(2.6,0.6) 28(2.2,0.6) 29(1.8,0.6) 30(1.4,0.6) 31(1,0.6) 32(0.6,0.6)
  rect 2.8x2.8 smd mask+0.025: 33(2,-1.4)
via 2,-2.55 diameter 0.5 hole 0.2
via 3.15,-1.4 diameter 0.5 hole 0.2
via 2,-1.4 diameter 0.5 hole 0.2
via 0.85,-1.4 diameter 0.5 hole 0.2
via 2,-0.25 diameter 0.5 hole 0.2
Top Overlay:
  lines w0.3: -0.75,0 -0.75,1.1 ; -0.5,0 -1,0 -1,1.1 -0.5,1.1 ; -0.5,1.1 -0.5,-3.9 4.5,-3.9 4.5,1.1 -0.5,1.1
Top Paste:
  region: 1.85,-1.25 1.85,-0.05 0.65,-0.05 0.65,-1.25
  region: 3.35,-1.25 3.35,-0.05 2.15,-0.05 2.15,-1.25
  region: 2.15,-1.55 2.15,-2.75 3.35,-2.75 3.35,-1.55
  region: 0.65,-1.55 0.65,-2.75 1.85,-2.75 1.85,-1.55
ASSY-C:
  circle w0.05: c0.92,-0.32 r0.3
  lines w0.05: -0.075,-2.9 -0.4,-2.9 -0.4,-2.7 -0.075,-2.7 ; -0.075,-2.5 -0.4,-2.5 -0.4,-2.3 -0.075,-2.3 ; -0.075,-2.1 -0.4,-2.1 -0.4,-1.9 -0.075,-1.9 ; -0.075,-1.7 -0.4,-1.7 -0.4,-1.5 -0.075,-1.5 ; -0.075,-1.3 -0.4,-1.3 -0.4,-1.1 -0.075,-1.1 ; -0.075,-0.9 -0.4,-0.9 -0.4,-0.7 -0.075,-0.7 ; -0.075,-0.5 -0.4,-0.5 -0.4,-0.3 -0.075,-0.3 ; -0.075,-0.1 -0.4,-0.1 -0.4,0.1 -0.075,0.1 ; 0.5,-3.475 0.5,-3.8 0.7,-3.8 0.7,-3.475 ; 0.5,0.675 0.5,1 0.7,1 0.7,0.675 ; 0.9,-3.475 0.9,-3.8 1.1,-3.8 1.1,-3.475 ; 0.9,0.675 0.9,1 1.1,1 1.1,0.675 ; 1.3,-3.475 1.3,-3.8 1.5,-3.8 1.5,-3.475 ; 1.3,0.675 1.3,1 1.5,1 1.5,0.675 ; 1.7,-3.475 1.7,-3.8 1.9,-3.8 1.9,-3.475 ; 1.7,0.675 1.7,1 1.9,1 1.9,0.675 ; 2.1,-3.475 2.1,-3.8 2.3,-3.8 2.3,-3.475 ; 2.1,0.675 2.1,1 2.3,1 2.3,0.675 ; 2.5,-3.475 2.5,-3.8 2.7,-3.8 2.7,-3.475 ; 2.5,0.675 2.5,1 2.7,1 2.7,0.675 ; 2.9,-3.475 2.9,-3.8 3.1,-3.8 3.1,-3.475 ; 2.9,0.675 2.9,1 3.1,1 3.1,0.675 ; 3.3,-3.475 3.3,-3.8 3.5,-3.8 3.5,-3.475 ; 3.3,0.675 3.3,1 3.5,1 3.5,0.675 ; 4.075,-2.9 4.4,-2.9 4.4,-2.7 4.075,-2.7 ; 4.075,-2.5 4.4,-2.5 4.4,-2.3 4.075,-2.3 ; 4.075,-2.1 4.4,-2.1 4.4,-1.9 4.075,-1.9 ; 4.075,-1.7 4.4,-1.7 4.4,-1.5 4.075,-1.5 ; 4.075,-1.3 4.4,-1.3 4.4,-1.1 4.075,-1.1 ; 4.075,-0.9 4.4,-0.9 4.4,-0.7 4.075,-0.7 ; 4.075,-0.5 4.4,-0.5 4.4,-0.3 4.075,-0.3 ; 4.075,-0.1 4.4,-0.1 4.4,0.1 4.075,0.1 ; -0.075,-3.475 4.075,-3.475 4.075,0.675 -0.075,0.675 -0.075,-3.475
  text "U?" at 2,-1.4 h1.02
  text "9" at 0.47,-3.41 h0.5
  text "16" at 2.8,-3.4 h0.5
  text "17" at 3.98,-2.89 h0.5
  text "24" at 4,-0.72 h0.5
  text "25" at 2.74,0.11 h0.5
  text "32" at 0.32,0.11 h0.5
  text "8" at 0.53,-2.81 h0.5
  text "1" at 0.52,-0.16 h0.5
3D body: height 1.01, standoff 0.5, extent 0.276,-0.299 0.874,0.299
3D body: height 1, standoff 0, extent -0.075,-3.475 4.075,0.675

## CP2102-QFN28 [mm] "QFN28 5x5 pitch 0.5"
height 1
pads (31):
  rrect10% 0.3x1 smd mask+0.05: 1(-1.5,-2.5) 2(-1,-2.5) 3(-0.5,-2.5) 4(0,-2.5) 5(0.5,-2.5) 6(1,-2.5) 7(1.5,-2.5) 15(1.5,2.5) 16(1,2.5) 17(0.5,2.5) 18(0,2.5) 19(-0.5,2.5) 20(-1,2.5) 21(-1.5,2.5)
  rrect10% 1x0.3 smd mask+0.05: 8(2.5,-1.5) 9(2.5,-1) 10(2.5,-0.5) 11(2.5,0) 12(2.5,0.5) 13(2.5,1) 14(2.5,1.5) 22(-2.5,1.5) 23(-2.5,1) 24(-2.5,0.5) 25(-2.5,0) 26(-2.5,-0.5) 27(-2.5,-1) 28(-2.5,-1.5)
  round 1.4 hole 1 mask+0.2: 29(0,0)
  rrect10% 3.15x3.15 smd mask+0.05: 29(0,0)
  rrect10% 0.5x0.5 smd mask+0.05: ""(-2.1,-2.1)
Top Overlay:
  circle w0.3: c0.5,-3.4 r0.1
  circle w0.3: c3.4,-0.5 r0.1
  circle w0.3: c1.5,3.4 r0.1
  circle w0.3: c-1,3.4 r0.1
  circle w0.3: c-3.4,0 r0.1
  lines w0.3: -2.7,-1.9 -2.7,-2.9 -1.9,-2.9 -1.9,-3.3 -1.3,-3.3 ; -2.5,1.9 -2.5,2.5 -1.9,2.5 ; 1.9,-2.5 2.5,-2.5 2.5,-1.9 ; 1.9,2.5 2.5,2.5 2.5,1.9
Top hinh chieu bang:
  lines w0.05: -2.5,-2.2 -2.5,2.3 -2.3,2.5 2.3,2.5 2.5,2.3 2.5,-2.3 2.3,-2.5 -2.2,-2.5 -2.5,-2.2
  text "28" at -1.7,-1.8 h0.5
  text "22" at -1.6,0.7 h0.5
  text "21" at -1.7,1.7 h0.5
  text "15" at 1,1.7 h0.5
  text "14" at 2.1,0.6 h0.5
  text "8" at 2.2,-1.7 h0.5
  text "7" at 1.3,-2.3 h0.5
  text "1" at -1.5,-2.3 h0.5
3D body "User Library-QFN28-0_5.STEP": height 1, standoff 0, extent -2.5,-2.5 2.5,2.5

## CR95HF VFQFPN [mm] "VFQFPN, 32-Leads, Body 5.00x5.00mm, Pitch 0.50mm, Thermal Pad 3.80x3.80mm, IPC Medium Density"
height 1
pads (33):
  rrect30% 0.3x1 smd mask+0.05: 1(-1.75,-2.55) 2(-1.25,-2.55) 3(-0.75,-2.55) 4(-0.25,-2.55) 5(0.25,-2.55) 6(0.75,-2.55) 7(1.25,-2.55) 8(1.75,-2.55) 17(1.75,2.55) 18(1.25,2.55) 19(0.75,2.55) 20(0.25,2.55) 21(-0.25,2.55) 22(-0.75,2.55) 23(-1.25,2.55) 24(-1.75,2.55)
  rrect30% 1x0.3 smd mask+0.05: 9(2.55,-1.75) 10(2.55,-1.25) 11(2.55,-0.75) 12(2.55,-0.25) 13(2.55,0.25) 14(2.55,0.75) 15(2.55,1.25) 16(2.55,1.75) 25(-2.55,1.75) 26(-2.55,1.25) 27(-2.55,0.75) 28(-2.55,0.25) 29(-2.55,-0.25) 30(-2.55,-0.75) 31(-2.55,-1.25) 32(-2.55,-1.75)
  rrect10% 3.6x3.6 smd paste+0 mask+0: 33(0,0)
Top Overlay:
  circle w0.3: c-3.37,-0.75 r0.07
  circle w0.3: c-3.37,1.75 r0.07
  circle w0.3: c0.25,3.37 r0.07
  circle w0.3: c3.37,1.25 r0.07
  circle w0.3: c3.37,-1.25 r0.07
  circle w0.3: c0.25,-3.37 r0.07
  region: 0.25,-2.97
  region: 2.907,-1.374
  lines w0.3: -2.575,-2.2 -2.575,-2.575 -2.2,-2.575 -2.16,-2.575 -2.16,-3.3 -1.66,-3.3 ; -2.575,2.2 -2.575,2.575 -2.2,2.575 ; 2.2,-2.575 2.575,-2.575 2.575,-2.2 ; 2.2,2.575 2.575,2.575 2.575,2.2
Top hinh chieu bang:
  lines w0.05: -2.575,-1.9 -2.65,-1.9 -2.65,-1.6 -2.575,-1.6 ; -2.575,-1.4 -2.65,-1.4 -2.65,-1.1 -2.575,-1.1 ; -2.575,-0.9 -2.65,-0.9 -2.65,-0.6 -2.575,-0.6 ; -2.575,-0.4 -2.65,-0.4 -2.65,-0.1 -2.575,-0.1 ; -2.575,0.1 -2.65,0.1 -2.65,0.4 -2.575,0.4 ; -2.575,0.6 -2.65,0.6 -2.65,0.9 -2.575,0.9 ; -2.575,1.1 -2.65,1.1 -2.65,1.4 -2.575,1.4 ; -1.9,2.575 -1.9,2.65 -1.6,2.65 -1.6,2.575 ; -1.4,-2.575 -1.4,-2.65 -1.1,-2.65 -1.1,-2.575 ; -1.4,2.575 -1.4,2.65 -1.1,2.65 -1.1,2.575 ; -0.9,-2.575 -0.9,-2.65 -0.6,-2.65 -0.6,-2.575 ; -0.9,2.575 -0.9,2.65 -0.6,2.65 -0.6,2.575 ; -0.4,-2.575 -0.4,-2.65 -0.1,-2.65 -0.1,-2.575 ; -0.4,2.575 -0.4,2.65 -0.1,2.65 -0.1,2.575 ; 0.1,-2.575 0.1,-2.65 0.4,-2.65 0.4,-2.575 ; 0.1,2.575 0.1,2.65 0.4,2.65 0.4,2.575 ; 0.6,-2.575 0.6,-2.65 0.9,-2.65 0.9,-2.575 ; 0.6,2.575 0.6,2.65 0.9,2.65 0.9,2.575 ; 1.1,-2.575 1.1,-2.65 1.4,-2.65 1.4,-2.575 ; 1.1,2.575 1.1,2.65 1.4,2.65 1.4,2.575 ; 1.6,-2.575 1.6,-2.65 1.9,-2.65 1.9,-2.575 ; 2.575,-1.4 2.65,-1.4 2.65,-1.1 2.575,-1.1 ; 2.575,-0.9 2.65,-0.9 2.65,-0.6 2.575,-0.6 ; 2.575,-0.4 2.65,-0.4 2.65,-0.1 2.575,-0.1 ; 2.575,0.1 2.65,0.1 2.65,0.4 2.575,0.4 ; 2.575,0.6 2.65,0.6 2.65,0.9 2.575,0.9 ; 2.575,1.1 2.65,1.1 2.65,1.4 2.575,1.4 ; 2.575,1.6 2.65,1.6 2.65,1.9 2.575,1.9 ; -2.65,1.6 -2.65,1.9 ; -2.65,1.6 -2.575,1.6 -2.65,1.6 ; -2.65,1.6 -2.65,1.9 ; -2.65,1.9 -2.575,1.9 -2.65,1.9 ; -1.9,-2.65 -1.9,-2.575 -1.9,-2.65 ; -1.9,-2.65 -1.6,-2.65 ; -1.9,-2.65 -1.6,-2.65 ; -1.6,-2.65 -1.6,-2.575 -1.6,-2.65 ; 1.6,2.65 1.6,2.575 1.6,2.65 ; 1.6,2.65 1.9,2.65 ; 1.6,2.65 1.9,2.65 ; 1.9,2.65 1.9,2.575 1.9,2.65 ; 2.65,-1.9 2.575,-1.9 2.65,-1.9 ; 2.65,-1.9 2.65,-1.6 ; 2.65,-1.9 2.65,-1.6 ; 2.65,-1.6 2.575,-1.6 2.65,-1.6 ; -2.575,-2.575 -2.575,2.575 2.575,2.575 2.575,-2.575 -2.575,-2.575
  text "1" at -1.65,-2.4 h0.4
  text "8" at 1.95,-2.4 h0.4
  text "9" at 2,-1.8 h0.4
  text "16" at 2.4,1.2 h0.4
  text "17" at 1.8,1.867 h0.4
  text "25" at -1.95,1.2 h0.4
  text "24" at -1.35,1.8 h0.4
  text "32" at -1.95,-1.8 h0.4
3D body "CR95HF.step": height 0.9, standoff -0.1, extent -2.585,-2.585 2.585,2.585

## DS1307 [mm] "DIP 8, 8 PIN, W 7.62, Pin to pin 2.54MM"
height 4.58
pads (8):
  round 1.3 hole 0.8: 1(0,0) 2(2.54,0) 3(5.08,0) 4(7.62,0) 5(7.62,7.62) 6(5.08,7.62) 7(2.54,7.62) 8(0,7.62)
Top Overlay:
  lines w0.3: 1.11,1.01 1.11,-0.99 -1.27,-0.99 -1.27,1.01 ; -1.27,1.01 -1.27,2.73 ccw(c-1.27,3.81) -1.27,4.89 -1.27,6.61 8.89,6.61 8.89,1.01 -1.27,1.01
ASSY-C:
  circle w0.05: c0,7.62 r0.65
  circle w0.05: c2.54,7.62 r0.65
  circle w0.05: c5.08,7.62 r0.65
  circle w0.05: c7.62,7.62 r0.65
  circle w0.05: c7.62,0 r0.65
  circle w0.05: c5.08,0 r0.65
  circle w0.05: c2.54,0 r0.65
  circle w0.05: c0,0 r0.65
  lines w0.05: -1.27,2.51 ccw(c-1.27,3.81) -1.27,5.11 ; -1.27,0.51 8.89,0.51 8.89,7.11 -1.27,7.11 -1.27,0.51
  text "1" at -0.19,0.91 h1
  text "4" at 7.31,0.91 h1
  text "5" at 7.31,5.81 h1
  text "8" at -0.29,5.81 h1
3D body "DIP8.STEP": height 4.57, standoff -3.81, extent -1.145,-0.1 8.765,7.72